# EAGLE library part AD9958 (library balmer)
500 MSPS DDS with 10-Bit DACs
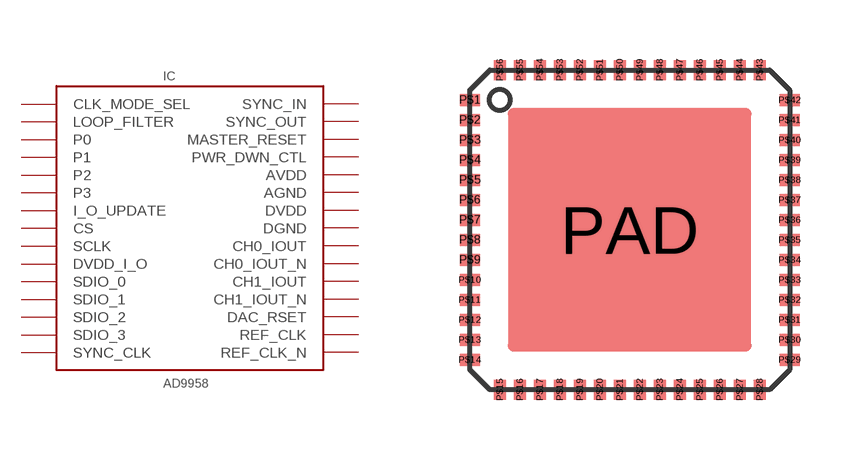
[diagram p20: symbol with the pads of CP-56-1; footprint CP-56-1]

Designator prefix IC

## AD9958  [CP-56-1]
P$1  SYNC_IN
P$2  SYNC_OUT
P$3  MASTER_RESET
P$4  PWR_DWN_CTL
P$5  AVDD
P$6  AGND
P$7  AVDD
P$8  CH0_IOUT
P$9  CH0_IOUT_N
P$10  AGND
P$11  AVDD
P$12  AGND
P$13  CH1_IOUT
P$14  CH1_IOUT_N
P$15  AVDD
P$16  AGND
P$17  DAC_RSET
P$18  AGND
P$19  AVDD
P$20  AGND
P$21  AVDD
P$22  REF_CLK_N
P$23  REF_CLK
P$24  CLK_MODE_SEL
P$25  AGND
P$26  AVDD
P$27  LOOP_FILTER
P$29  AVDD
P$30  AVDD
P$31  AVDD
P$33  AVDD
P$35  AVDD
P$36  AVDD
P$37  AVDD
P$39  AVDD
P$40  P0
P$41  P1
P$42  P2
P$43  P3
P$44  DGND
P$45  DVDD
P$46  I_O_UPDATE
P$47  CS
P$48  SCLK
P$49  DVDD_I_O
P$50  SDIO_0
P$51  SDIO_1
P$52  SDIO_2
P$53  SDIO_3
P$54  SYNC_CLK
P$55  DVDD
P$56  DGND
PAD  AGND

## Footprint CP-56-1 (pad centres in mm)
56-Lead Lead Frame Chip Scale Package
smd 0.5 x 0.3: P$1 -4,3.25; P$2 -4,2.75; P$3 -4,2.25; P$4 -4,1.75; P$5 -4,1.25; P$6 -4,0.75; P$7 -4,0.25; P$8 -4,-0.25; P$9 -4,-0.75; P$10 -4,-1.25; P$11 -4,-1.75; P$12 -4,-2.25; P$13 -4,-2.75; P$14 -4,-3.25; P$29 4,-3.25; P$30 4,-2.75; P$31 4,-2.25; P$32 4,-1.75; P$33 4,-1.25; P$34 4,-0.75; P$35 4,-0.25; P$36 4,0.25; P$37 4,0.75; P$38 4,1.25; P$39 4,1.75; P$40 4,2.25; P$41 4,2.75; P$42 4,3.25
smd 0.3 x 0.5: P$15 -3.25,-4; P$16 -2.75,-4; P$17 -2.25,-4; P$18 -1.75,-4; P$19 -1.25,-4; P$20 -0.75,-4; P$21 -0.25,-4; P$22 0.25,-4; P$23 0.75,-4; P$24 1.25,-4; P$25 1.75,-4; P$26 2.25,-4; P$27 2.75,-4; P$28 3.25,-4; P$43 3.25,4; P$44 2.75,4; P$45 2.25,4; P$46 1.75,4; P$47 1.25,4; P$48 0.75,4; P$49 0.25,4; P$50 -0.25,4; P$51 -0.75,4; P$52 -1.25,4; P$53 -1.75,4; P$54 -2.25,4; P$55 -2.75,4; P$56 -3.25,4
smd 6.1 x 6.1: PAD 0,0